# EAGLE library part SST25PF040CT-40E_SN (library SamacSys_Parts)
EEPROM 2.3V TO 3.6V 4Mbit SPI FLASH, 125C Industrial Source: Datasheet <https://www.mouser.com/datasheet/2/268/microchip_technology_mchp-s-a0008368847-1-1763533.pdf>
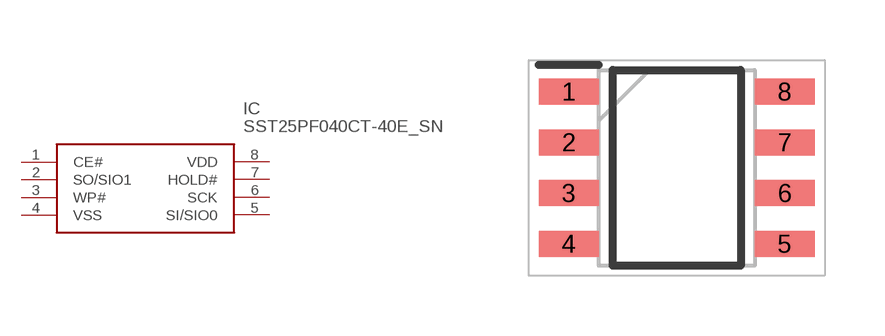
[diagram p0: symbol with the pads of SOIC127P600X175-8N; footprint SOIC127P600X175-8N]

Designator prefix IC

## SST25PF040CT-40E_SN (Description: EEPROM 2.3V TO 3.6V 4Mbit SPI FLASH, 125C Industrial; Height: 1.75mm; Manufacturer_Name: Microchip; Manufacturer_Part_Number: SST25PF040CT-40E/SN; Mouser_Part_Number: 579-T25PF040CT-40ESN; Mouser_Price-Stock: https://www.mouser.com/Search/Refine.aspx?Keyword=579-T25PF040CT-40ESN)  [SOIC127P600X175-8N]
1  CE#
2  SO/SIO1
3  WP#
4  VSS
5  SI/SIO0
6  SCK
7  HOLD#
8  VDD

## Footprint SOIC127P600X175-8N (pad centres in mm)
SN
smd 1.5 x 0.65: 1 -2.7,1.905; 2 -2.7,0.635; 3 -2.7,-0.635; 4 -2.7,-1.905; 5 2.7,-1.905; 6 2.7,-0.635; 7 2.7,0.635; 8 2.7,1.905